# Altium integrated library Analog Devices Data Converters Digital-to-Analog Converters.IntLib: 2231 symbols (part 112 of 181)
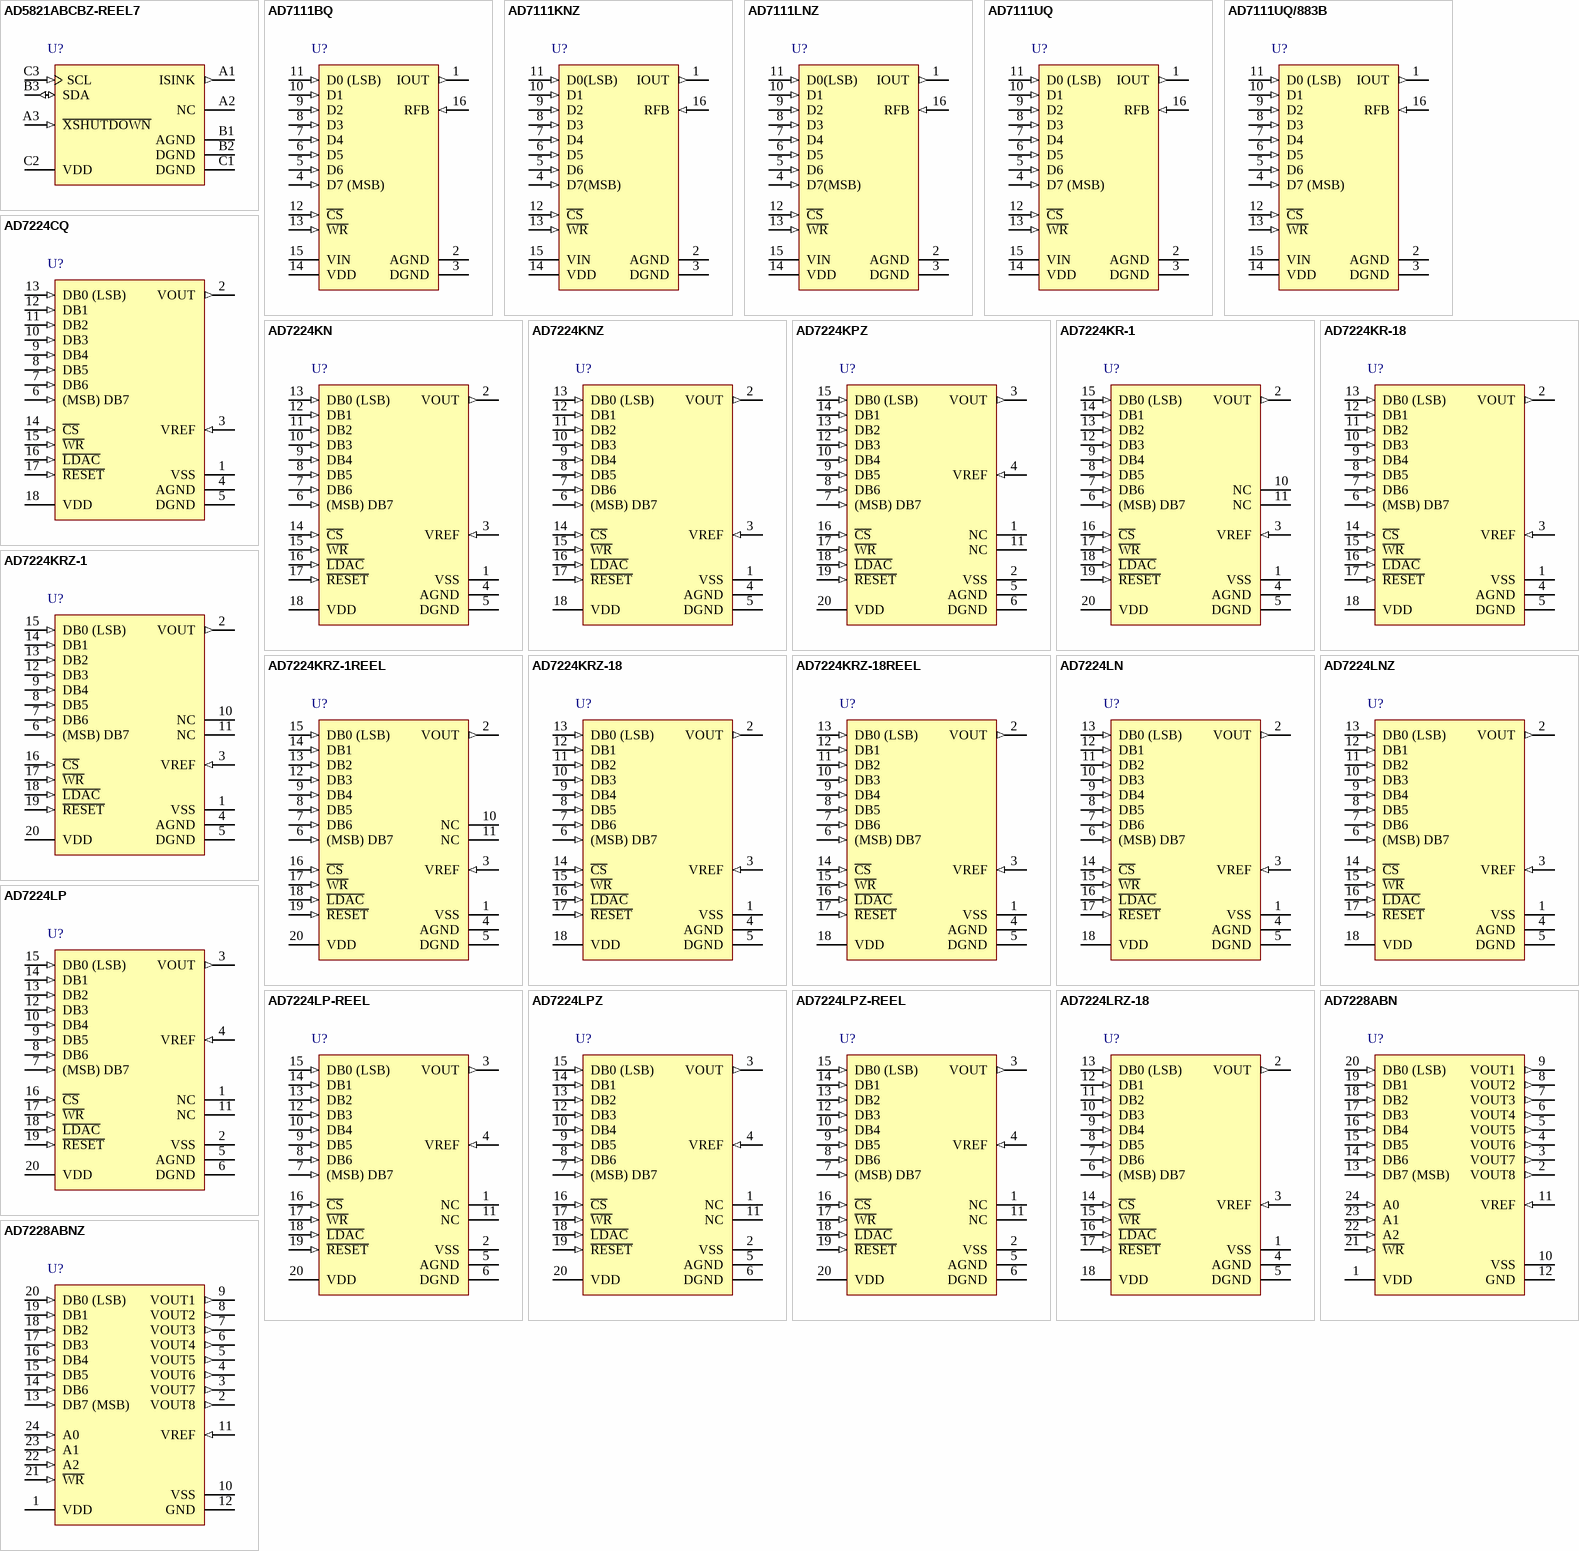
[diagram p225: symbols AD5821ABCBZ-REEL7 to AD7228ABNZ]

## AD7224KR-18
designator U?
Single 8-Bit LC2MOS Digital-to-Analog Converter with Output Amplifier, 0 to +70 degC, RW-18, Tube; Generic Part Number: AD7224; Manufacturer: Analog Devices; PartNumber: AD7224KR-18; # DAC Outputs: 1; Max V+: 16.5V; Op Pwr Diss: 75mW; Resolution (Bits): 8; Settling Time: 7µs; Single Supply: Yes; DatasheetVersion: Rev.B; PackageVersion: 060706-A; PackageReference: RW-18; PackageDescription: 18-Lead Standard Small Outline Package [SOIC_W] Wide Body; Supplier 1: Digi-Key; Supplier Part Number 1: AD7224KR-18-ND; Supplier 2: Newark; Supplier Part Number 2: 66F5834; Supplier 3: Mouser; Supplier Part Number 3: 584-AD7224KR-18; Packing: Tube; RoHS: N; Mounting Technology: Surface Mount; Code_JEDEC: MS-013-AB; ComponentLink1Description: Manufacturer URL; ComponentLink1URL: http://www.analog.com/en/index.html; ComponentLink2Description: Datasheet; ComponentLink2URL: http://www.analog.com/static/imported-files/data_sheets/AD7224.pdf; ComponentLink3Description: Package Specification; ComponentLink3URL: http://www.analog.com/static/imported-files/packages/33254132129439RW_18.pdf; ComponentLink4Description: Product URL; ComponentLink4URL: http://www.analog.com/en/digital-to-analog-converters/da-converters/ad7224/products/product.html
footprint RW-18_N (SOIC, 18-Leads, Body 11.6x7.5mm, Pitch 1.27mm, IPC Medium Density)
footprint RW-18_L (SOIC, 18-Leads, Body 11.6x7.5mm, Pitch 1.27mm, IPC High Density)
footprint RW-18_M (SOIC, 18-Leads, Body 11.6x7.5mm, Pitch 1.27mm, IPC Low Density)
pins: 1 VSS (power), 2 VOUT (out), 3 VREF (in), 4 AGND (power), 5 DGND (power), 6 (MSB) DB7 (in), 7 DB6 (in), 8 DB5 (in), 9 DB4 (in), 10 DB3 (in), 11 DB2 (in), 12 DB1 (in), 13 DB0 (LSB) (in), 14 ~{CS} (in), 15 ~{WR} (in), 16 ~{LDAC} (in), 17 ~{RESET} (in), 18 VDD (power)

## AD7224KRZ-1
designator U?
Single 8-Bit LC2MOS Digital-to-Analog Converter with Output Amplifier, 0 to +70 degC, RW-20, Pb-Free, Tube; Generic Part Number: AD7224; Manufacturer: Analog Devices; PartNumber: AD7224KRZ-1; # DAC Outputs: 1; Max V+: 16.5V; Op Pwr Diss: 75mW; Resolution (Bits): 8; Settling Time: 7µs; Single Supply: Yes; DatasheetVersion: Rev.B; PackageVersion: 060706-A; PackageReference: RW-20; PackageDescription: 20-Lead Standard Small Outline Package [SOIC_W] Wide Body; Supplier 1: Digi-Key; Supplier Part Number 1: AD7224KRZ-1-ND; Supplier 2: Newark; Supplier Part Number 2: 87H9974; Supplier 3: Mouser; Supplier Part Number 3: 584-AD7224KRZ-1; Packing: Tube; RoHS: Y; Mounting Technology: Surface Mount; Code_JEDEC: MS-013-AC; ComponentLink1Description: Manufacturer URL; ComponentLink1URL: http://www.analog.com/en/index.html; ComponentLink2Description: Datasheet; ComponentLink2URL: http://www.analog.com/static/imported-files/data_sheets/AD7224.pdf; ComponentLink3Description: Package Specification; ComponentLink3URL: http://www.analog.com/static/imported-files/packages/233848RW_20.pdf; ComponentLink4Description: Product URL; ComponentLink4URL: http://www.analog.com/en/digital-to-analog-converters/da-converters/ad7224/products/product.html
footprint RW-20_N (SOIC, 20-Leads, Body 12.8x7.5mm, Pitch 1.27mm, IPC Medium Density)
footprint RW-20_L (SOIC, 20-Leads, Body 12.8x7.5mm, Pitch 1.27mm, IPC High Density)
footprint RW-20_M (SOIC, 20-Leads, Body 12.8x7.5mm, Pitch 1.27mm, IPC Low Density)
pins: 1 VSS (power), 2 VOUT (out), 3 VREF (in), 4 AGND (power), 5 DGND (power), 6 (MSB) DB7 (in), 7 DB6 (in), 8 DB5 (in), 9 DB4 (in), 10 NC, 11 NC, 12 DB3 (in), 13 DB2 (in), 14 DB1 (in), 15 DB0 (LSB) (in), 16 ~{CS} (in), 17 ~{WR} (in), 18 ~{LDAC} (in), 19 ~{RESET} (in), 20 VDD (power)

## AD7224KRZ-1REEL
designator U?
Single 8-Bit LC2MOS Digital-to-Analog Converter with Output Amplifier, 0 to +70 degC, RW-20, Pb-Free, Reel; Generic Part Number: AD7224; Manufacturer: Analog Devices; PartNumber: AD7224KRZ-1REEL; # DAC Outputs: 1; Max V+: 16.5V; Op Pwr Diss: 75mW; Resolution (Bits): 8; Settling Time: 7µs; Single Supply: Yes; DatasheetVersion: Rev.B; PackageVersion: 060706-A; PackageReference: RW-20; PackageDescription: 20-Lead Standard Small Outline Package [SOIC_W] Wide Body; Supplier 1: Digi-Key; Supplier Part Number 1: AD7224KRZ-1REELTR-ND; Supplier 2: Digi-Key; Supplier Part Number 2: AD7224KRZ-1REELCT-ND; Supplier 3: Digi-Key; Supplier Part Number 3: AD7224KRZ-1REELDKR-ND; Supplier 4: Newark; Supplier Part Number 4: 02P7474; Supplier 5: Mouser; Supplier Part Number 5: 584-AD7224KRZ-1R; Packing: Reel; RoHS: Y; Mounting Technology: Surface Mount; Code_JEDEC: MS-013-AC; ComponentLink1Description: Manufacturer URL; ComponentLink1URL: http://www.analog.com/en/index.html; ComponentLink2Description: Datasheet; ComponentLink2URL: http://www.analog.com/static/imported-files/data_sheets/AD7224.pdf; ComponentLink3Description: Package Specification; ComponentLink3URL: http://www.analog.com/static/imported-files/packages/233848RW_20.pdf; ComponentLink4Description: Product URL; ComponentLink4URL: http://www.analog.com/en/digital-to-analog-converters/da-converters/ad7224/products/product.html
footprint RW-20_N (SOIC, 20-Leads, Body 12.8x7.5mm, Pitch 1.27mm, IPC Medium Density)
footprint RW-20_L (SOIC, 20-Leads, Body 12.8x7.5mm, Pitch 1.27mm, IPC High Density)
footprint RW-20_M (SOIC, 20-Leads, Body 12.8x7.5mm, Pitch 1.27mm, IPC Low Density)
pins: 1 VSS (power), 2 VOUT (out), 3 VREF (in), 4 AGND (power), 5 DGND (power), 6 (MSB) DB7 (in), 7 DB6 (in), 8 DB5 (in), 9 DB4 (in), 10 NC, 11 NC, 12 DB3 (in), 13 DB2 (in), 14 DB1 (in), 15 DB0 (LSB) (in), 16 ~{CS} (in), 17 ~{WR} (in), 18 ~{LDAC} (in), 19 ~{RESET} (in), 20 VDD (power)

## AD7224KRZ-18
designator U?
Single 8-Bit LC2MOS Digital-to-Analog Converter with Output Amplifier, 0 to +70 degC, RW-18, Pb-Free, Tube; Generic Part Number: AD7224; Manufacturer: Analog Devices; PartNumber: AD7224KRZ-18; # DAC Outputs: 1; Max V+: 16.5V; Op Pwr Diss: 75mW; Resolution (Bits): 8; Settling Time: 7µs; Single Supply: Yes; DatasheetVersion: Rev.B; PackageVersion: 060706-A; PackageReference: RW-18; PackageDescription: 18-Lead Standard Small Outline Package [SOIC_W] Wide Body; Supplier 1: Digi-Key; Supplier Part Number 1: AD7224KRZ-18-ND; Supplier 2: Mouser; Supplier Part Number 2: 584-AD7224KRZ-18; Packing: Tube; RoHS: Y; Mounting Technology: Surface Mount; Code_JEDEC: MS-013-AB; ComponentLink1Description: Manufacturer URL; ComponentLink1URL: http://www.analog.com/en/index.html; ComponentLink2Description: Datasheet; ComponentLink2URL: http://www.analog.com/static/imported-files/data_sheets/AD7224.pdf; ComponentLink3Description: Package Specification; ComponentLink3URL: http://www.analog.com/static/imported-files/packages/33254132129439RW_18.pdf; ComponentLink4Description: Product URL; ComponentLink4URL: http://www.analog.com/en/digital-to-analog-converters/da-converters/ad7224/products/product.html
footprint RW-18_N (SOIC, 18-Leads, Body 11.6x7.5mm, Pitch 1.27mm, IPC Medium Density)
footprint RW-18_L (SOIC, 18-Leads, Body 11.6x7.5mm, Pitch 1.27mm, IPC High Density)
footprint RW-18_M (SOIC, 18-Leads, Body 11.6x7.5mm, Pitch 1.27mm, IPC Low Density)
pins: 1 VSS (power), 2 VOUT (out), 3 VREF (in), 4 AGND (power), 5 DGND (power), 6 (MSB) DB7 (in), 7 DB6 (in), 8 DB5 (in), 9 DB4 (in), 10 DB3 (in), 11 DB2 (in), 12 DB1 (in), 13 DB0 (LSB) (in), 14 ~{CS} (in), 15 ~{WR} (in), 16 ~{LDAC} (in), 17 ~{RESET} (in), 18 VDD (power)

## AD7224KRZ-18REEL
designator U?
Single 8-Bit LC2MOS Digital-to-Analog Converter with Output Amplifier, 0 to +70 degC, RW-18, Pb-Free, Reel; Generic Part Number: AD7224; Manufacturer: Analog Devices; PartNumber: AD7224KRZ-18REEL; # DAC Outputs: 1; Max V+: 16.5V; Op Pwr Diss: 75mW; Resolution (Bits): 8; Settling Time: 7µs; Single Supply: Yes; DatasheetVersion: Rev.B; PackageVersion: 060706-A; PackageReference: RW-18; PackageDescription: 18-Lead Standard Small Outline Package [SOIC_W] Wide Body; Supplier 1: Digi-Key; Supplier Part Number 1: AD7224KRZ-18REEL-ND; Supplier 2: Mouser; Supplier Part Number 2: 584-AD7224KRZ-18R; Packing: Reel; RoHS: Y; Mounting Technology: Surface Mount; Code_JEDEC: MS-013-AB; ComponentLink1Description: Manufacturer URL; ComponentLink1URL: http://www.analog.com/en/index.html; ComponentLink2Description: Datasheet; ComponentLink2URL: http://www.analog.com/static/imported-files/data_sheets/AD7224.pdf; ComponentLink3Description: Package Specification; ComponentLink3URL: http://www.analog.com/static/imported-files/packages/33254132129439RW_18.pdf; ComponentLink4Description: Product URL; ComponentLink4URL: http://www.analog.com/en/digital-to-analog-converters/da-converters/ad7224/products/product.html
footprint RW-18_N (SOIC, 18-Leads, Body 11.6x7.5mm, Pitch 1.27mm, IPC Medium Density)
footprint RW-18_L (SOIC, 18-Leads, Body 11.6x7.5mm, Pitch 1.27mm, IPC High Density)
footprint RW-18_M (SOIC, 18-Leads, Body 11.6x7.5mm, Pitch 1.27mm, IPC Low Density)
pins: 1 VSS (power), 2 VOUT (out), 3 VREF (in), 4 AGND (power), 5 DGND (power), 6 (MSB) DB7 (in), 7 DB6 (in), 8 DB5 (in), 9 DB4 (in), 10 DB3 (in), 11 DB2 (in), 12 DB1 (in), 13 DB0 (LSB) (in), 14 ~{CS} (in), 15 ~{WR} (in), 16 ~{LDAC} (in), 17 ~{RESET} (in), 18 VDD (power)

## AD7224LN
designator U?
Single 8-Bit LC2MOS Digital-to-Analog Converter with Output Amplifier, 0 to +70 degC, N-18, Tube; Generic Part Number: AD7224; Manufacturer: Analog Devices; PartNumber: AD7224LN; # DAC Outputs: 1; Max V+: 16.5V; Op Pwr Diss: 75mW; Resolution (Bits): 8; Settling Time: 7µs; Single Supply: Yes; DatasheetVersion: Rev.B; PackageVersion: 070706-A; PackageReference: N-18; PackageDescription: 18-Lead Plastic Dual In-Line Package [PDIP] Narrow Body; Supplier 1: Digi-Key; Supplier Part Number 1: AD7224LN-ND; Supplier 2: Mouser; Supplier Part Number 2: 584-AD7224LN; Packing: Tube; RoHS: N; Mounting Technology: Through Hole; Code_JEDEC: MS-001; ComponentLink1Description: Manufacturer URL; ComponentLink1URL: http://www.analog.com/en/index.html; ComponentLink2Description: Datasheet; ComponentLink2URL: http://www.analog.com/static/imported-files/data_sheets/AD7224.pdf; ComponentLink3Description: Package Specification; ComponentLink3URL: http://www.analog.com/static/imported-files/packages/44930452931834N_18.pdf; ComponentLink4Description: Product URL; ComponentLink4URL: http://www.analog.com/en/digital-to-analog-converters/da-converters/ad7224/products/product.html
footprint N-18 (DIP, 18-Leads, Row Spacing 7.62mm, Pitch 2.54mm, Body 22.9x6.6mm)
pins: 1 VSS (power), 2 VOUT (out), 3 VREF (in), 4 AGND (power), 5 DGND (power), 6 (MSB) DB7 (in), 7 DB6 (in), 8 DB5 (in), 9 DB4 (in), 10 DB3 (in), 11 DB2 (in), 12 DB1 (in), 13 DB0 (LSB) (in), 14 ~{CS} (in), 15 ~{WR} (in), 16 ~{LDAC} (in), 17 ~{RESET} (in), 18 VDD (power)

## AD7224LNZ
designator U?
Single 8-Bit LC2MOS Digital-to-Analog Converter with Output Amplifier, 0 to +70 degC, N-18, Pb-Free, Tube; Generic Part Number: AD7224; Manufacturer: Analog Devices; PartNumber: AD7224LNZ; # DAC Outputs: 1; Max V+: 16.5V; Op Pwr Diss: 75mW; Resolution (Bits): 8; Settling Time: 7µs; Single Supply: Yes; DatasheetVersion: Rev.B; PackageVersion: 070706-A; PackageReference: N-18; PackageDescription: 18-Lead Plastic Dual In-Line Package [PDIP] Narrow Body; Supplier 1: Digi-Key; Supplier Part Number 1: AD7224LNZ-ND; Supplier 2: Newark; Supplier Part Number 2: 59K4567; Supplier 3: Mouser; Supplier Part Number 3: 584-AD7224LNZ; Packing: Tube; RoHS: Y; Mounting Technology: Through Hole; Code_JEDEC: MS-001; ComponentLink1Description: Manufacturer URL; ComponentLink1URL: http://www.analog.com/en/index.html; ComponentLink2Description: Datasheet; ComponentLink2URL: http://www.analog.com/static/imported-files/data_sheets/AD7224.pdf; ComponentLink3Description: Package Specification; ComponentLink3URL: http://www.analog.com/static/imported-files/packages/44930452931834N_18.pdf; ComponentLink4Description: Product URL; ComponentLink4URL: http://www.analog.com/en/digital-to-analog-converters/da-converters/ad7224/products/product.html
footprint N-18 (DIP, 18-Leads, Row Spacing 7.62mm, Pitch 2.54mm, Body 22.9x6.6mm)
pins: 1 VSS (power), 2 VOUT (out), 3 VREF (in), 4 AGND (power), 5 DGND (power), 6 (MSB) DB7 (in), 7 DB6 (in), 8 DB5 (in), 9 DB4 (in), 10 DB3 (in), 11 DB2 (in), 12 DB1 (in), 13 DB0 (LSB) (in), 14 ~{CS} (in), 15 ~{WR} (in), 16 ~{LDAC} (in), 17 ~{RESET} (in), 18 VDD (power)

## AD7224LP
designator U?
Single 8-Bit LC2MOS Digital-to-Analog Converter with Output Amplifier, 0 to +70 degC, P-20A, Tube; Generic Part Number: AD7224; Manufacturer: Analog Devices; PartNumber: AD7224LP; # DAC Outputs: 1; Max V+: 16.5V; Op Pwr Diss: 75mW; Resolution (Bits): 8; Settling Time: 7µs; Single Supply: Yes; DatasheetVersion: Rev.B; PackageVersion: Nov-2002; PackageReference: P-20A; PackageDescription: 20-Lead Plastic Leaded Chip Carrier [PLCC]; Supplier 1: Digi-Key; Supplier Part Number 1: AD7224LP-ND; Supplier 2: Mouser; Supplier Part Number 2: 584-AD7224LP; Packing: Tube; RoHS: N; Mounting Technology: Surface Mount; Code_JEDEC: MO-047-AA; ComponentLink1Description: Manufacturer URL; ComponentLink1URL: http://www.analog.com/en/index.html; ComponentLink2Description: Datasheet; ComponentLink2URL: http://www.analog.com/static/imported-files/data_sheets/AD7224.pdf; ComponentLink3Description: Package Specification; ComponentLink3URL: http://www.analog.com/static/imported-files/packages/3121431516544404277643669223804694P20A.pdf; ComponentLink4Description: Product URL; ComponentLink4URL: http://www.analog.com/en/digital-to-analog-converters/da-converters/ad7224/products/product.html
footprint P-20A_N (Leaded Chip Carrier, 20-Leads, Body 9x9mm, Pitch 1.27mm, IPC Medium Density)
footprint P-20A_L (Leaded Chip Carrier, 20-Leads, Body 9x9mm, Pitch 1.27mm, IPC High Density)
footprint P-20A_M (Leaded Chip Carrier, 20-Leads, Body 9x9mm, Pitch 1.27mm, IPC Low Density)
pins: 1 NC, 2 VSS (power), 3 VOUT (out), 4 VREF (in), 5 AGND (power), 6 DGND (power), 7 (MSB) DB7 (in), 8 DB6 (in), 9 DB5 (in), 10 DB4 (in), 11 NC, 12 DB3 (in), 13 DB2 (in), 14 DB1 (in), 15 DB0 (LSB) (in), 16 ~{CS} (in), 17 ~{WR} (in), 18 ~{LDAC} (in), 19 ~{RESET} (in), 20 VDD (power)

## AD7224LP-REEL
designator U?
Single 8-Bit LC2MOS Digital-to-Analog Converter with Output Amplifier, 0 to +70 degC, P-20A, Reel; Generic Part Number: AD7224; Manufacturer: Analog Devices; PartNumber: AD7224LP-REEL; # DAC Outputs: 1; Max V+: 16.5V; Op Pwr Diss: 75mW; Resolution (Bits): 8; Settling Time: 7µs; Single Supply: Yes; DatasheetVersion: Rev.B; PackageVersion: Nov-2002; PackageReference: P-20A; PackageDescription: 20-Lead Plastic Leaded Chip Carrier [PLCC]; Supplier 1: Digi-Key; Supplier Part Number 1: AD7224LP-REEL-ND; Supplier 2: Mouser; Supplier Part Number 2: 584-AD7224LP-R; Packing: Reel; RoHS: N; Mounting Technology: Surface Mount; Code_JEDEC: MO-047-AA; ComponentLink1Description: Manufacturer URL; ComponentLink1URL: http://www.analog.com/en/index.html; ComponentLink2Description: Datasheet; ComponentLink2URL: http://www.analog.com/static/imported-files/data_sheets/AD7224.pdf; ComponentLink3Description: Package Specification; ComponentLink3URL: http://www.analog.com/static/imported-files/packages/3121431516544404277643669223804694P20A.pdf; ComponentLink4Description: Product URL; ComponentLink4URL: http://www.analog.com/en/digital-to-analog-converters/da-converters/ad7224/products/product.html
footprint P-20A_N (Leaded Chip Carrier, 20-Leads, Body 9x9mm, Pitch 1.27mm, IPC Medium Density)
footprint P-20A_L (Leaded Chip Carrier, 20-Leads, Body 9x9mm, Pitch 1.27mm, IPC High Density)
footprint P-20A_M (Leaded Chip Carrier, 20-Leads, Body 9x9mm, Pitch 1.27mm, IPC Low Density)
pins: 1 NC, 2 VSS (power), 3 VOUT (out), 4 VREF (in), 5 AGND (power), 6 DGND (power), 7 (MSB) DB7 (in), 8 DB6 (in), 9 DB5 (in), 10 DB4 (in), 11 NC, 12 DB3 (in), 13 DB2 (in), 14 DB1 (in), 15 DB0 (LSB) (in), 16 ~{CS} (in), 17 ~{WR} (in), 18 ~{LDAC} (in), 19 ~{RESET} (in), 20 VDD (power)

## AD7224LPZ
designator U?
Single 8-Bit LC2MOS Digital-to-Analog Converter with Output Amplifier, 0 to +70 degC, P-20A, Pb-Free, Tube; Generic Part Number: AD7224; Manufacturer: Analog Devices; PartNumber: AD7224LPZ; # DAC Outputs: 1; Max V+: 16.5V; Op Pwr Diss: 75mW; Resolution (Bits): 8; Settling Time: 7µs; Single Supply: Yes; DatasheetVersion: Rev.B; PackageVersion: Nov-2002; PackageReference: P-20A; PackageDescription: 20-Lead Plastic Leaded Chip Carrier [PLCC]; Supplier 1: Digi-Key; Supplier Part Number 1: AD7224LPZ-ND; Supplier 2: Mouser; Supplier Part Number 2: 584-AD7224LPZ; Packing: Tube; RoHS: Y; Mounting Technology: Surface Mount; Code_JEDEC: MO-047-AA; ComponentLink1Description: Manufacturer URL; ComponentLink1URL: http://www.analog.com/en/index.html; ComponentLink2Description: Datasheet; ComponentLink2URL: http://www.analog.com/static/imported-files/data_sheets/AD7224.pdf; ComponentLink3Description: Package Specification; ComponentLink3URL: http://www.analog.com/static/imported-files/packages/3121431516544404277643669223804694P20A.pdf; ComponentLink4Description: Product URL; ComponentLink4URL: http://www.analog.com/en/digital-to-analog-converters/da-converters/ad7224/products/product.html
footprint P-20A_N (Leaded Chip Carrier, 20-Leads, Body 9x9mm, Pitch 1.27mm, IPC Medium Density)
footprint P-20A_L (Leaded Chip Carrier, 20-Leads, Body 9x9mm, Pitch 1.27mm, IPC High Density)
footprint P-20A_M (Leaded Chip Carrier, 20-Leads, Body 9x9mm, Pitch 1.27mm, IPC Low Density)
pins: 1 NC, 2 VSS (power), 3 VOUT (out), 4 VREF (in), 5 AGND (power), 6 DGND (power), 7 (MSB) DB7 (in), 8 DB6 (in), 9 DB5 (in), 10 DB4 (in), 11 NC, 12 DB3 (in), 13 DB2 (in), 14 DB1 (in), 15 DB0 (LSB) (in), 16 ~{CS} (in), 17 ~{WR} (in), 18 ~{LDAC} (in), 19 ~{RESET} (in), 20 VDD (power)

## AD7224LPZ-REEL
designator U?
Single 8-Bit LC2MOS Digital-to-Analog Converter with Output Amplifier, 0 to +70 degC, P-20A, Pb-Free, Reel; Generic Part Number: AD7224; Manufacturer: Analog Devices; PartNumber: AD7224LPZ-REEL; # DAC Outputs: 1; Max V+: 16.5V; Op Pwr Diss: 75mW; Resolution (Bits): 8; Settling Time: 7µs; Single Supply: Yes; DatasheetVersion: Rev.B; PackageVersion: Nov-2002; PackageReference: P-20A; PackageDescription: 20-Lead Plastic Leaded Chip Carrier [PLCC]; Supplier 1: Digi-Key; Supplier Part Number 1: AD7224LPZ-REEL-ND; Supplier 2: Mouser; Supplier Part Number 2: 584-AD7224LPZ-R; Packing: Reel; RoHS: Y; Mounting Technology: Surface Mount; Code_JEDEC: MO-047-AA; ComponentLink1Description: Manufacturer URL; ComponentLink1URL: http://www.analog.com/en/index.html; ComponentLink2Description: Datasheet; ComponentLink2URL: http://www.analog.com/static/imported-files/data_sheets/AD7224.pdf; ComponentLink3Description: Package Specification; ComponentLink3URL: http://www.analog.com/static/imported-files/packages/3121431516544404277643669223804694P20A.pdf; ComponentLink4Description: Product URL; ComponentLink4URL: http://www.analog.com/en/digital-to-analog-converters/da-converters/ad7224/products/product.html
footprint P-20A_N (Leaded Chip Carrier, 20-Leads, Body 9x9mm, Pitch 1.27mm, IPC Medium Density)
footprint P-20A_L (Leaded Chip Carrier, 20-Leads, Body 9x9mm, Pitch 1.27mm, IPC High Density)
footprint P-20A_M (Leaded Chip Carrier, 20-Leads, Body 9x9mm, Pitch 1.27mm, IPC Low Density)
pins: 1 NC, 2 VSS (power), 3 VOUT (out), 4 VREF (in), 5 AGND (power), 6 DGND (power), 7 (MSB) DB7 (in), 8 DB6 (in), 9 DB5 (in), 10 DB4 (in), 11 NC, 12 DB3 (in), 13 DB2 (in), 14 DB1 (in), 15 DB0 (LSB) (in), 16 ~{CS} (in), 17 ~{WR} (in), 18 ~{LDAC} (in), 19 ~{RESET} (in), 20 VDD (power)

## AD7224LRZ-18
designator U?
Single 8-Bit LC2MOS Digital-to-Analog Converter with Output Amplifier, 0 to +70 degC, RW-18, Pb-Free, Tube; Generic Part Number: AD7224; Manufacturer: Analog Devices; PartNumber: AD7224LRZ-18; # DAC Outputs: 1; Max V+: 16.5V; Op Pwr Diss: 75mW; Resolution (Bits): 8; Settling Time: 7µs; Single Supply: Yes; DatasheetVersion: Rev.B; PackageVersion: 060706-A; PackageReference: RW-18; PackageDescription: 18-Lead Standard Small Outline Package [SOIC_W] Wide Body; Supplier 1: Digi-Key; Supplier Part Number 1: AD7224LRZ-18-ND; Supplier 2: Mouser; Supplier Part Number 2: 584-AD7224LRZ-18; Packing: Tube; RoHS: Y; Mounting Technology: Surface Mount; Code_JEDEC: MS-013-AB; ComponentLink1Description: Manufacturer URL; ComponentLink1URL: http://www.analog.com/en/index.html; ComponentLink2Description: Datasheet; ComponentLink2URL: http://www.analog.com/static/imported-files/data_sheets/AD7224.pdf; ComponentLink3Description: Package Specification; ComponentLink3URL: http://www.analog.com/static/imported-files/packages/33254132129439RW_18.pdf; ComponentLink4Description: Product URL; ComponentLink4URL: http://www.analog.com/en/digital-to-analog-converters/da-converters/ad7224/products/product.html
footprint RW-18_N (SOIC, 18-Leads, Body 11.6x7.5mm, Pitch 1.27mm, IPC Medium Density)
footprint RW-18_L (SOIC, 18-Leads, Body 11.6x7.5mm, Pitch 1.27mm, IPC High Density)
footprint RW-18_M (SOIC, 18-Leads, Body 11.6x7.5mm, Pitch 1.27mm, IPC Low Density)
pins: 1 VSS (power), 2 VOUT (out), 3 VREF (in), 4 AGND (power), 5 DGND (power), 6 (MSB) DB7 (in), 7 DB6 (in), 8 DB5 (in), 9 DB4 (in), 10 DB3 (in), 11 DB2 (in), 12 DB1 (in), 13 DB0 (LSB) (in), 14 ~{CS} (in), 15 ~{WR} (in), 16 ~{LDAC} (in), 17 ~{RESET} (in), 18 VDD (power)

## AD7228ABN
designator U?
Octal 8-Bit LC2MOS Digital-to-Analog Converter, -40 to +85 degC, N-24-1, Tube; Generic Part Number: AD7228; Manufacturer: Analog Devices; PartNumber: AD7228ABN; # DAC Outputs: 8; Max V+: 16.5V; Op Pwr Diss: 310mW; Settling Time: 5µs; Single Supply: Yes; DatasheetVersion: Rev.A; PackageVersion: 071006-A; PackageReference: N-24-1; PackageDescription: 24-Lead Plastic Dual In-Line Package [PDIP] Narrow Body; Supplier 1: Digi-Key; Supplier Part Number 1: AD7228ABN-ND; Supplier 2: Mouser; Supplier Part Number 2: 584-AD7228ABN; Packing: Tube; Resolution (Bits): 8; RoHS: N; Mounting Technology: Through Hole; Code_JEDEC: MS-001; ComponentLink1Description: Manufacturer URL; ComponentLink1URL: http://www.analog.com/en/index.html; ComponentLink2Description: Datasheet; ComponentLink2URL: http://www.analog.com/static/imported-files/data_sheets/AD7228.pdf; ComponentLink3Description: Package Specification; ComponentLink3URL: http://www.analog.com/static/imported-files/packages/50726455539629N_24_1.pdf; ComponentLink4Description: Product URL; ComponentLink4URL: http://www.analog.com/en/digital-to-analog-converters/da-converters/ad7228/products/product.html
footprint N-24-1 (DIP, 24-Leads, Row Spacing 7.62mm, Pitch 2.54mm, Body 31.9x6.6mm)
pins: 1 VDD (power), 2 VOUT8 (out), 3 VOUT7 (out), 4 VOUT6 (out), 5 VOUT5 (out), 6 VOUT4 (out), 7 VOUT3 (out), 8 VOUT2 (out), 9 VOUT1 (out), 10 VSS (power), 11 VREF (in), 12 GND (power), 13 DB7 (MSB) (in), 14 DB6 (in), 15 DB5 (in), 16 DB4 (in), 17 DB3 (in), 18 DB2 (in), 19 DB1 (in), 20 DB0 (LSB) (in), 21 ~{WR} (in), 22 A2 (in), 23 A1 (in), 24 A0 (in)

## AD7228ABNZ
designator U?
Octal 8-Bit LC2MOS Digital-to-Analog Converter, -40 to +85 degC, N-24-1, Pb-Free, Tube; Generic Part Number: AD7228; Manufacturer: Analog Devices; PartNumber: AD7228ABNZ; # DAC Outputs: 8; Max V+: 16.5V; Op Pwr Diss: 310mW; Settling Time: 5µs; Single Supply: Yes; DatasheetVersion: Rev.A; PackageVersion: 071006-A; PackageReference: N-24-1; PackageDescription: 24-Lead Plastic Dual In-Line Package [PDIP] Narrow Body; Supplier 1: Digi-Key; Supplier Part Number 1: AD7228ABNZ-ND; Supplier 2: Farnell; Supplier Part Number 2: 1438386; Supplier 3: Newark; Supplier Part Number 3: 15P0774; Supplier 4: Mouser; Supplier Part Number 4: 584-AD7228ABNZ; Packing: Tube; Resolution (Bits): 8; RoHS: Y; Mounting Technology: Through Hole; Code_JEDEC: MS-001; ComponentLink1Description: Manufacturer URL; ComponentLink1URL: http://www.analog.com/en/index.html; ComponentLink2Description: Datasheet; ComponentLink2URL: http://www.analog.com/static/imported-files/data_sheets/AD7228.pdf; ComponentLink3Description: Package Specification; ComponentLink3URL: http://www.analog.com/static/imported-files/packages/50726455539629N_24_1.pdf; ComponentLink4Description: Product URL; ComponentLink4URL: http://www.analog.com/en/digital-to-analog-converters/da-converters/ad7228/products/product.html
footprint N-24-1 (DIP, 24-Leads, Row Spacing 7.62mm, Pitch 2.54mm, Body 31.9x6.6mm)
pins: 1 VDD (power), 2 VOUT8 (out), 3 VOUT7 (out), 4 VOUT6 (out), 5 VOUT5 (out), 6 VOUT4 (out), 7 VOUT3 (out), 8 VOUT2 (out), 9 VOUT1 (out), 10 VSS (power), 11 VREF (in), 12 GND (power), 13 DB7 (MSB) (in), 14 DB6 (in), 15 DB5 (in), 16 DB4 (in), 17 DB3 (in), 18 DB2 (in), 19 DB1 (in), 20 DB0 (LSB) (in), 21 ~{WR} (in), 22 A2 (in), 23 A1 (in), 24 A0 (in)

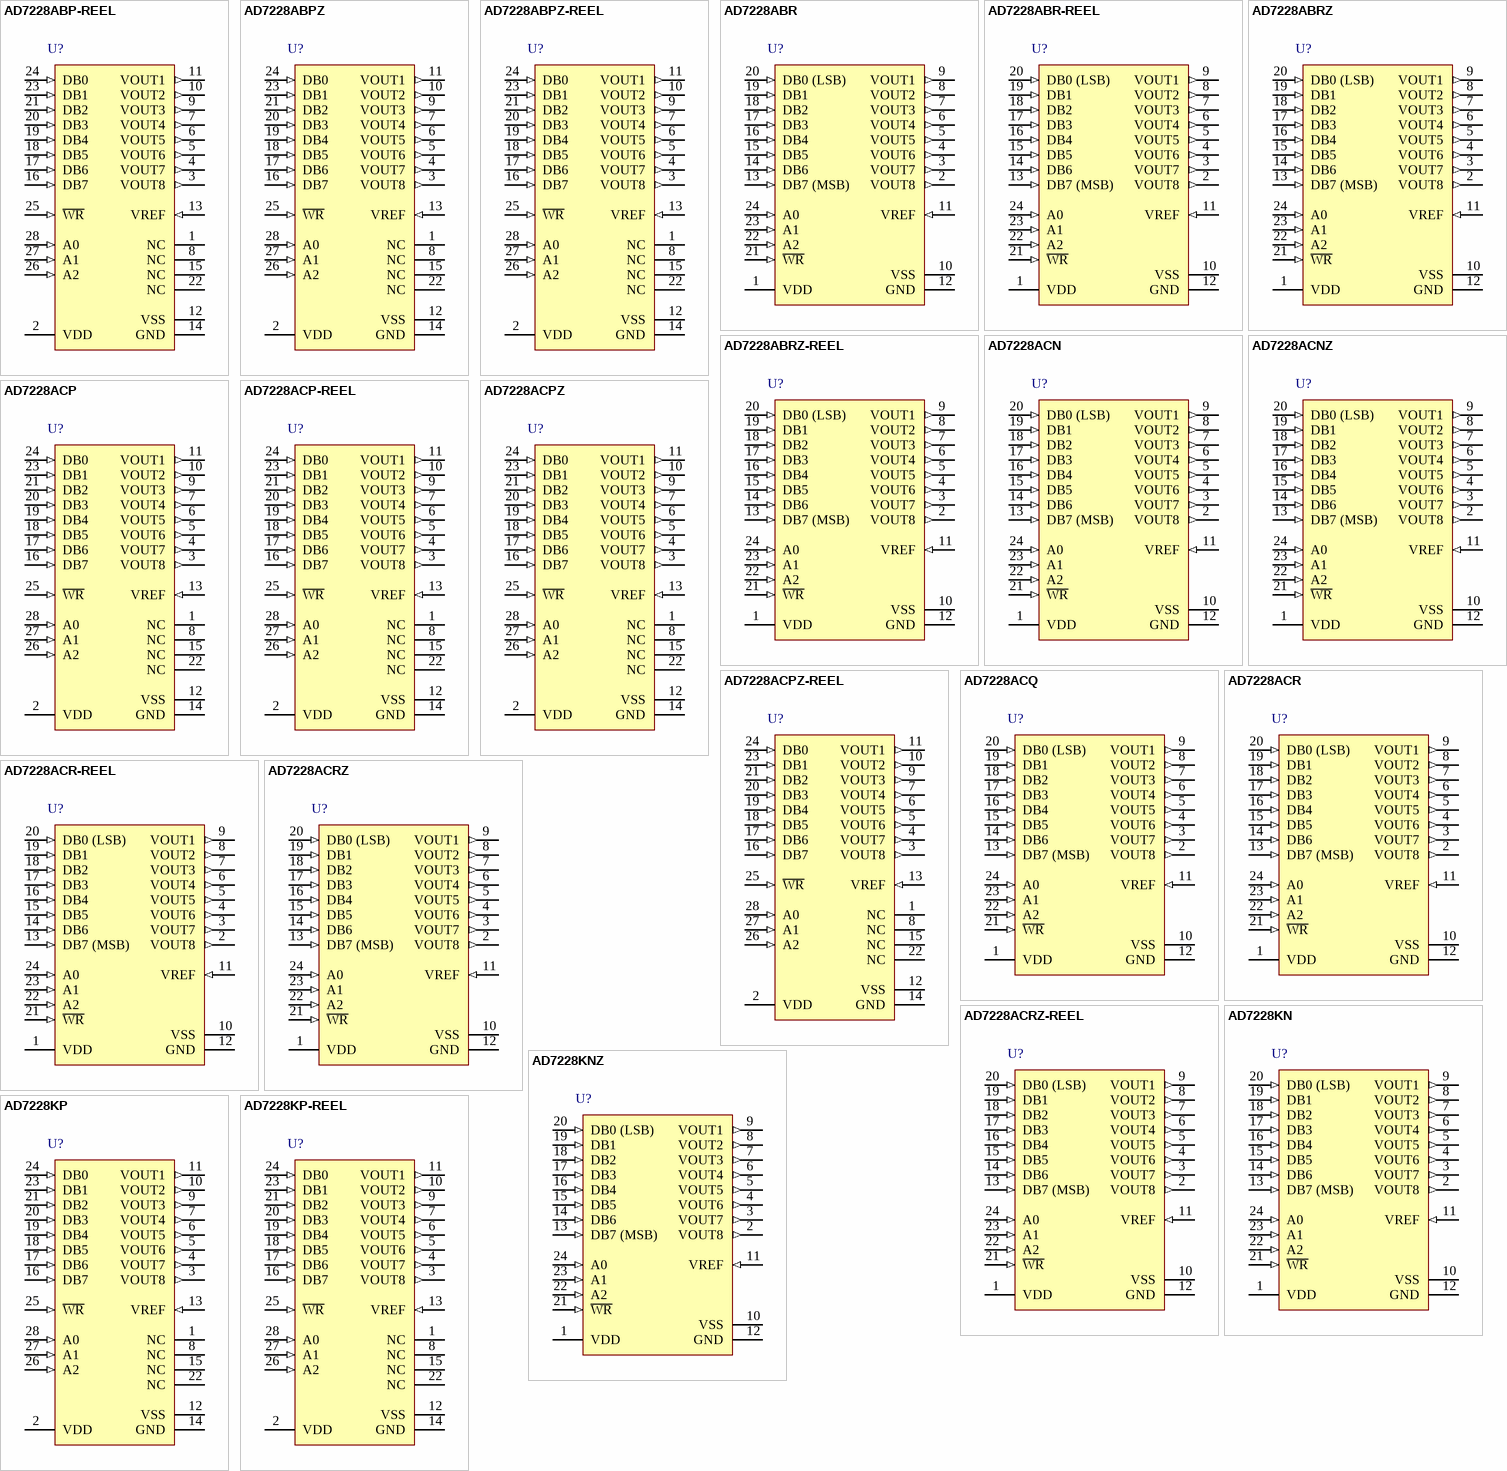
[diagram p59: symbols AD7228ABP-REEL to AD7228KP-REEL]

## AD7228ABP-REEL
designator U?
Octal 8-Bit LC2MOS Digital-to-Analog Converter, -40 to +85 degC, P-28, Reel; Generic Part Number: AD7228; Manufacturer: Analog Devices; PartNumber: AD7228ABP-REEL; # DAC Outputs: 8; Max V+: 16.5V; Op Pwr Diss: 310mW; Settling Time: 5µs; Single Supply: Yes; DatasheetVersion: Rev.A; PackageVersion: 042508-A; PackageReference: P-28; PackageDescription: 28-Lead Plastic Leaded Chip Carrier [PLCC]; Supplier 1: Mouser; Supplier Part Number 1: N/A; Packing: Reel; Resolution (Bits): 8; RoHS: N; Mounting Technology: Surface Mount; Code_JEDEC: MO-047-AB; ComponentLink1Description: Manufacturer URL; ComponentLink1URL: http://www.analog.com/en/index.html; ComponentLink2Description: Datasheet; ComponentLink2URL: http://www.analog.com/static/imported-files/data_sheets/AD7228.pdf; ComponentLink3Description: Package Specification; ComponentLink3URL: http://www.analog.com/static/imported-files/packages/PKG_PDF/PLCC(P)/P_28.pdf; ComponentLink4Description: Product URL; ComponentLink4URL: http://www.analog.com/en/digital-to-analog-converters/da-converters/ad7228/products/product.html
footprint P-28_N (Leaded Chip Carrier, 28-Leads, Body 11.5x11.5mm, Pitch 1.27mm, IPC Medium Density)
footprint P-28_L (Leaded Chip Carrier, 28-Leads, Body 11.5x11.5mm, Pitch 1.27mm, IPC High Density)
footprint P-28_M (Leaded Chip Carrier, 28-Leads, Body 11.5x11.5mm, Pitch 1.27mm, IPC Low Density)
pins: 1 NC, 2 VDD (power), 3 VOUT8 (out), 4 VOUT7 (out), 5 VOUT6 (out), 6 VOUT5 (out), 7 VOUT4 (out), 8 NC, 9 VOUT3 (out), 10 VOUT2 (out), 11 VOUT1 (out), 12 VSS (power), 13 VREF (in), 14 GND (power), 15 NC, 16 DB7 (in), 17 DB6 (in), 18 DB5 (in), 19 DB4 (in), 20 DB3 (in), 21 DB2 (in), 22 NC, 23 DB1 (in), 24 DB0 (in), 25 ~{WR} (in), 26 A2 (in), 27 A1 (in), 28 A0 (in)

## AD7228ABPZ
designator U?
Octal 8-Bit LC2MOS Digital-to-Analog Converter, -40 to +85 degC, P-28, Pb-Free, Tube; Generic Part Number: AD7228; Manufacturer: Analog Devices; PartNumber: AD7228ABPZ; # DAC Outputs: 8; Max V+: 16.5V; Op Pwr Diss: 310mW; Settling Time: 5µs; Single Supply: Yes; DatasheetVersion: Rev.A; PackageVersion: 042508-A; PackageReference: P-28; PackageDescription: 28-Lead Plastic Leaded Chip Carrier [PLCC]; Supplier 1: Digi-Key; Supplier Part Number 1: AD7228ABPZ-ND; Supplier 2: Newark; Supplier Part Number 2: 12M8731; Supplier 3: Mouser; Supplier Part Number 3: 584-AD7228ABPZ; Packing: Tube; Resolution (Bits): 8; RoHS: Y; Mounting Technology: Surface Mount; Code_JEDEC: MO-047-AB; ComponentLink1Description: Manufacturer URL; ComponentLink1URL: http://www.analog.com/en/index.html; ComponentLink2Description: Datasheet; ComponentLink2URL: http://www.analog.com/static/imported-files/data_sheets/AD7228.pdf; ComponentLink3Description: Package Specification; ComponentLink3URL: http://www.analog.com/static/imported-files/packages/PKG_PDF/PLCC(P)/P_28.pdf; ComponentLink4Description: Product URL; ComponentLink4URL: http://www.analog.com/en/digital-to-analog-converters/da-converters/ad7228/products/product.html
footprint P-28_N (Leaded Chip Carrier, 28-Leads, Body 11.5x11.5mm, Pitch 1.27mm, IPC Medium Density)
footprint P-28_L (Leaded Chip Carrier, 28-Leads, Body 11.5x11.5mm, Pitch 1.27mm, IPC High Density)
footprint P-28_M (Leaded Chip Carrier, 28-Leads, Body 11.5x11.5mm, Pitch 1.27mm, IPC Low Density)
pins: 1 NC, 2 VDD (power), 3 VOUT8 (out), 4 VOUT7 (out), 5 VOUT6 (out), 6 VOUT5 (out), 7 VOUT4 (out), 8 NC, 9 VOUT3 (out), 10 VOUT2 (out), 11 VOUT1 (out), 12 VSS (power), 13 VREF (in), 14 GND (power), 15 NC, 16 DB7 (in), 17 DB6 (in), 18 DB5 (in), 19 DB4 (in), 20 DB3 (in), 21 DB2 (in), 22 NC, 23 DB1 (in), 24 DB0 (in), 25 ~{WR} (in), 26 A2 (in), 27 A1 (in), 28 A0 (in)

## AD7228ABPZ-REEL
designator U?
Octal 8-Bit LC2MOS Digital-to-Analog Converter, -40 to +85 degC, P-28, Pb-Free, Reel; Generic Part Number: AD7228; Manufacturer: Analog Devices; PartNumber: AD7228ABPZ-REEL; # DAC Outputs: 8; Max V+: 16.5V; Op Pwr Diss: 310mW; Settling Time: 5µs; Single Supply: Yes; DatasheetVersion: Rev.A; PackageVersion: 042508-A; PackageReference: P-28; PackageDescription: 28-Lead Plastic Leaded Chip Carrier [PLCC]; Supplier 1: Digi-Key; Supplier Part Number 1: AD7228ABPZ-REEL-ND; Supplier 2: Mouser; Supplier Part Number 2: 584-AD7228ABPZ-R; Packing: Reel; Resolution (Bits): 8; RoHS: Y; Mounting Technology: Surface Mount; Code_JEDEC: MO-047-AB; ComponentLink1Description: Manufacturer URL; ComponentLink1URL: http://www.analog.com/en/index.html; ComponentLink2Description: Datasheet; ComponentLink2URL: http://www.analog.com/static/imported-files/data_sheets/AD7228.pdf; ComponentLink3Description: Package Specification; ComponentLink3URL: http://www.analog.com/static/imported-files/packages/PKG_PDF/PLCC(P)/P_28.pdf; ComponentLink4Description: Product URL; ComponentLink4URL: http://www.analog.com/en/digital-to-analog-converters/da-converters/ad7228/products/product.html
footprint P-28_N (Leaded Chip Carrier, 28-Leads, Body 11.5x11.5mm, Pitch 1.27mm, IPC Medium Density)
footprint P-28_L (Leaded Chip Carrier, 28-Leads, Body 11.5x11.5mm, Pitch 1.27mm, IPC High Density)
footprint P-28_M (Leaded Chip Carrier, 28-Leads, Body 11.5x11.5mm, Pitch 1.27mm, IPC Low Density)
pins: 1 NC, 2 VDD (power), 3 VOUT8 (out), 4 VOUT7 (out), 5 VOUT6 (out), 6 VOUT5 (out), 7 VOUT4 (out), 8 NC, 9 VOUT3 (out), 10 VOUT2 (out), 11 VOUT1 (out), 12 VSS (power), 13 VREF (in), 14 GND (power), 15 NC, 16 DB7 (in), 17 DB6 (in), 18 DB5 (in), 19 DB4 (in), 20 DB3 (in), 21 DB2 (in), 22 NC, 23 DB1 (in), 24 DB0 (in), 25 ~{WR} (in), 26 A2 (in), 27 A1 (in), 28 A0 (in)

## AD7228ABR
designator U?
Octal 8-Bit LC2MOS Digital-to-Analog Converter, -40 to +85 degC, RW-24, Tube; Generic Part Number: AD7228; Manufacturer: Analog Devices; PartNumber: AD7228ABR; # DAC Outputs: 8; Max V+: 16.5V; Op Pwr Diss: 310mW; Settling Time: 5µs; Single Supply: Yes; DatasheetVersion: Rev.A; PackageVersion: 060706-A; PackageReference: RW-24; PackageDescription: 24-Lead Standard Small Outline Package [SOIC_W]; Supplier 1: Digi-Key; Supplier Part Number 1: AD7228ABR-ND; Supplier 2: Mouser; Supplier Part Number 2: 584-AD7228ABR; Packing: Tube; Resolution (Bits): 8; RoHS: N; Mounting Technology: Surface Mount; Code_JEDEC: MS-013-AD; ComponentLink1Description: Manufacturer URL; ComponentLink1URL: http://www.analog.com/en/index.html; ComponentLink2Description: Datasheet; ComponentLink2URL: http://www.analog.com/static/imported-files/data_sheets/AD7228.pdf; ComponentLink3Description: Package Specification; ComponentLink3URL: http://www.analog.com/static/imported-files/packages/33665150946139RW_24.pdf; ComponentLink4Description: Product URL; ComponentLink4URL: http://www.analog.com/en/digital-to-analog-converters/da-converters/ad7228/products/product.html
footprint RW-24_N (SOIC, 24-Leads, Body 15.4x7.5mm, Pitch 1.27mm, IPC Medium Density)
footprint RW-24_L (SOIC, 24-Leads, Body 15.4x7.5mm, Pitch 1.27mm, IPC High Density)
footprint RW-24_M (SOIC, 24-Leads, Body 15.4x7.5mm, Pitch 1.27mm, IPC Low Density)
pins: 1 VDD (power), 2 VOUT8 (out), 3 VOUT7 (out), 4 VOUT6 (out), 5 VOUT5 (out), 6 VOUT4 (out), 7 VOUT3 (out), 8 VOUT2 (out), 9 VOUT1 (out), 10 VSS (power), 11 VREF (in), 12 GND (power), 13 DB7 (MSB) (in), 14 DB6 (in), 15 DB5 (in), 16 DB4 (in), 17 DB3 (in), 18 DB2 (in), 19 DB1 (in), 20 DB0 (LSB) (in), 21 ~{WR} (in), 22 A2 (in), 23 A1 (in), 24 A0 (in)

## AD7228ABR-REEL
designator U?
Octal 8-Bit LC2MOS Digital-to-Analog Converter, -40 to +85 degC, RW-24, Reel; Generic Part Number: AD7228; Manufacturer: Analog Devices; PartNumber: AD7228ABR-REEL; # DAC Outputs: 8; Max V+: 16.5V; Op Pwr Diss: 310mW; Settling Time: 5µs; Single Supply: Yes; DatasheetVersion: Rev.A; PackageVersion: 060706-A; PackageReference: RW-24; PackageDescription: 24-Lead Standard Small Outline Package [SOIC_W]; Supplier 1: Mouser; Supplier Part Number 1: N/A; Packing: Reel; Resolution (Bits): 8; RoHS: N; Mounting Technology: Surface Mount; Code_JEDEC: MS-013-AD; ComponentLink1Description: Manufacturer URL; ComponentLink1URL: http://www.analog.com/en/index.html; ComponentLink2Description: Datasheet; ComponentLink2URL: http://www.analog.com/static/imported-files/data_sheets/AD7228.pdf; ComponentLink3Description: Package Specification; ComponentLink3URL: http://www.analog.com/static/imported-files/packages/33665150946139RW_24.pdf; ComponentLink4Description: Product URL; ComponentLink4URL: http://www.analog.com/en/digital-to-analog-converters/da-converters/ad7228/products/product.html
footprint RW-24_N (SOIC, 24-Leads, Body 15.4x7.5mm, Pitch 1.27mm, IPC Medium Density)
footprint RW-24_L (SOIC, 24-Leads, Body 15.4x7.5mm, Pitch 1.27mm, IPC High Density)
footprint RW-24_M (SOIC, 24-Leads, Body 15.4x7.5mm, Pitch 1.27mm, IPC Low Density)
pins: 1 VDD (power), 2 VOUT8 (out), 3 VOUT7 (out), 4 VOUT6 (out), 5 VOUT5 (out), 6 VOUT4 (out), 7 VOUT3 (out), 8 VOUT2 (out), 9 VOUT1 (out), 10 VSS (power), 11 VREF (in), 12 GND (power), 13 DB7 (MSB) (in), 14 DB6 (in), 15 DB5 (in), 16 DB4 (in), 17 DB3 (in), 18 DB2 (in), 19 DB1 (in), 20 DB0 (LSB) (in), 21 ~{WR} (in), 22 A2 (in), 23 A1 (in), 24 A0 (in)

## AD7228ABRZ
designator U?
Octal 8-Bit LC2MOS Digital-to-Analog Converter, -40 to +85 degC, RW-24, Pb-Free, Tube; Generic Part Number: AD7228; Manufacturer: Analog Devices; PartNumber: AD7228ABRZ; # DAC Outputs: 8; Max V+: 16.5V; Op Pwr Diss: 310mW; Settling Time: 5µs; Single Supply: Yes; DatasheetVersion: Rev.A; PackageVersion: 060706-A; PackageReference: RW-24; PackageDescription: 24-Lead Standard Small Outline Package [SOIC_W]; Supplier 1: Digi-Key; Supplier Part Number 1: AD7228ABRZ-ND; Supplier 2: Farnell; Supplier Part Number 2: 1438387; Supplier 3: Newark; Supplier Part Number 3: 59K4584; Supplier 4: Mouser; Supplier Part Number 4: 584-AD7228ABRZ; Packing: Tube; Resolution (Bits): 8; RoHS: Y; Mounting Technology: Surface Mount; Code_JEDEC: MS-013-AD; ComponentLink1Description: Manufacturer URL; ComponentLink1URL: http://www.analog.com/en/index.html; ComponentLink2Description: Datasheet; ComponentLink2URL: http://www.analog.com/static/imported-files/data_sheets/AD7228.pdf; ComponentLink3Description: Package Specification; ComponentLink3URL: http://www.analog.com/static/imported-files/packages/33665150946139RW_24.pdf; ComponentLink4Description: Product URL; ComponentLink4URL: http://www.analog.com/en/digital-to-analog-converters/da-converters/ad7228/products/product.html
footprint RW-24_N (SOIC, 24-Leads, Body 15.4x7.5mm, Pitch 1.27mm, IPC Medium Density)
footprint RW-24_L (SOIC, 24-Leads, Body 15.4x7.5mm, Pitch 1.27mm, IPC High Density)
footprint RW-24_M (SOIC, 24-Leads, Body 15.4x7.5mm, Pitch 1.27mm, IPC Low Density)
pins: 1 VDD (power), 2 VOUT8 (out), 3 VOUT7 (out), 4 VOUT6 (out), 5 VOUT5 (out), 6 VOUT4 (out), 7 VOUT3 (out), 8 VOUT2 (out), 9 VOUT1 (out), 10 VSS (power), 11 VREF (in), 12 GND (power), 13 DB7 (MSB) (in), 14 DB6 (in), 15 DB5 (in), 16 DB4 (in), 17 DB3 (in), 18 DB2 (in), 19 DB1 (in), 20 DB0 (LSB) (in), 21 ~{WR} (in), 22 A2 (in), 23 A1 (in), 24 A0 (in)

## AD7228ABRZ-REEL
designator U?
Octal 8-Bit LC2MOS Digital-to-Analog Converter, -40 to +85 degC, RW-24, Pb-Free, Reel; Generic Part Number: AD7228; Manufacturer: Analog Devices; PartNumber: AD7228ABRZ-REEL; # DAC Outputs: 8; Max V+: 16.5V; Op Pwr Diss: 310mW; Settling Time: 5µs; Single Supply: Yes; DatasheetVersion: Rev.A; PackageVersion: 060706-A; PackageReference: RW-24; PackageDescription: 24-Lead Standard Small Outline Package [SOIC_W]; Supplier 1: Digi-Key; Supplier Part Number 1: AD7228ABRZ-REEL-ND; Supplier 2: Mouser; Supplier Part Number 2: 584-AD7228ABRZ-R; Packing: Reel; Resolution (Bits): 8; RoHS: Y; Mounting Technology: Surface Mount; Code_JEDEC: MS-013-AD; ComponentLink1Description: Manufacturer URL; ComponentLink1URL: http://www.analog.com/en/index.html; ComponentLink2Description: Datasheet; ComponentLink2URL: http://www.analog.com/static/imported-files/data_sheets/AD7228.pdf; ComponentLink3Description: Package Specification; ComponentLink3URL: http://www.analog.com/static/imported-files/packages/33665150946139RW_24.pdf; ComponentLink4Description: Product URL; ComponentLink4URL: http://www.analog.com/en/digital-to-analog-converters/da-converters/ad7228/products/product.html
footprint RW-24_N (SOIC, 24-Leads, Body 15.4x7.5mm, Pitch 1.27mm, IPC Medium Density)
footprint RW-24_L (SOIC, 24-Leads, Body 15.4x7.5mm, Pitch 1.27mm, IPC High Density)
footprint RW-24_M (SOIC, 24-Leads, Body 15.4x7.5mm, Pitch 1.27mm, IPC Low Density)
pins: 1 VDD (power), 2 VOUT8 (out), 3 VOUT7 (out), 4 VOUT6 (out), 5 VOUT5 (out), 6 VOUT4 (out), 7 VOUT3 (out), 8 VOUT2 (out), 9 VOUT1 (out), 10 VSS (power), 11 VREF (in), 12 GND (power), 13 DB7 (MSB) (in), 14 DB6 (in), 15 DB5 (in), 16 DB4 (in), 17 DB3 (in), 18 DB2 (in), 19 DB1 (in), 20 DB0 (LSB) (in), 21 ~{WR} (in), 22 A2 (in), 23 A1 (in), 24 A0 (in)

## AD7228ACN
designator U?
Octal 8-Bit LC2MOS Digital-to-Analog Converter, -40 to +85 degC, N-24-1, Tube; Generic Part Number: AD7228; Manufacturer: Analog Devices; PartNumber: AD7228ACN; # DAC Outputs: 8; Max V+: 16.5V; Op Pwr Diss: 310mW; Settling Time: 5µs; Single Supply: Yes; DatasheetVersion: Rev.A; PackageVersion: 071006-A; PackageReference: N-24-1; PackageDescription: 24-Lead Plastic Dual In-Line Package [PDIP] Narrow Body; Supplier 1: Digi-Key; Supplier Part Number 1: AD7228ACN-ND; Supplier 2: Mouser; Supplier Part Number 2: 584-AD7228ACN; Packing: Tube; Resolution (Bits): 8; RoHS: N; Mounting Technology: Through Hole; Code_JEDEC: MS-001; ComponentLink1Description: Manufacturer URL; ComponentLink1URL: http://www.analog.com/en/index.html; ComponentLink2Description: Datasheet; ComponentLink2URL: http://www.analog.com/static/imported-files/data_sheets/AD7228.pdf; ComponentLink3Description: Package Specification; ComponentLink3URL: http://www.analog.com/static/imported-files/packages/50726455539629N_24_1.pdf; ComponentLink4Description: Product URL; ComponentLink4URL: http://www.analog.com/en/digital-to-analog-converters/da-converters/ad7228/products/product.html
footprint N-24-1 (DIP, 24-Leads, Row Spacing 7.62mm, Pitch 2.54mm, Body 31.9x6.6mm)
pins: 1 VDD (power), 2 VOUT8 (out), 3 VOUT7 (out), 4 VOUT6 (out), 5 VOUT5 (out), 6 VOUT4 (out), 7 VOUT3 (out), 8 VOUT2 (out), 9 VOUT1 (out), 10 VSS (power), 11 VREF (in), 12 GND (power), 13 DB7 (MSB) (in), 14 DB6 (in), 15 DB5 (in), 16 DB4 (in), 17 DB3 (in), 18 DB2 (in), 19 DB1 (in), 20 DB0 (LSB) (in), 21 ~{WR} (in), 22 A2 (in), 23 A1 (in), 24 A0 (in)

## AD7228ACNZ
designator U?
Octal 8-Bit LC2MOS Digital-to-Analog Converter, -40 to +85 degC, N-24-1, Pb-Free, Tube; Generic Part Number: AD7228; Manufacturer: Analog Devices; PartNumber: AD7228ACNZ; # DAC Outputs: 8; Max V+: 16.5V; Op Pwr Diss: 310mW; Settling Time: 5µs; Single Supply: Yes; DatasheetVersion: Rev.A; PackageVersion: 071006-A; PackageReference: N-24-1; PackageDescription: 24-Lead Plastic Dual In-Line Package [PDIP] Narrow Body; Supplier 1: Digi-Key; Supplier Part Number 1: AD7228ACNZ-ND; Supplier 2: Newark; Supplier Part Number 2: 59K4586; Supplier 3: Mouser; Supplier Part Number 3: 584-AD7228ACNZ; Packing: Tube; Resolution (Bits): 8; RoHS: Y; Mounting Technology: Through Hole; Code_JEDEC: MS-001; ComponentLink1Description: Manufacturer URL; ComponentLink1URL: http://www.analog.com/en/index.html; ComponentLink2Description: Datasheet; ComponentLink2URL: http://www.analog.com/static/imported-files/data_sheets/AD7228.pdf; ComponentLink3Description: Package Specification; ComponentLink3URL: http://www.analog.com/static/imported-files/packages/50726455539629N_24_1.pdf; ComponentLink4Description: Product URL; ComponentLink4URL: http://www.analog.com/en/digital-to-analog-converters/da-converters/ad7228/products/product.html
footprint N-24-1 (DIP, 24-Leads, Row Spacing 7.62mm, Pitch 2.54mm, Body 31.9x6.6mm)
pins: 1 VDD (power), 2 VOUT8 (out), 3 VOUT7 (out), 4 VOUT6 (out), 5 VOUT5 (out), 6 VOUT4 (out), 7 VOUT3 (out), 8 VOUT2 (out), 9 VOUT1 (out), 10 VSS (power), 11 VREF (in), 12 GND (power), 13 DB7 (MSB) (in), 14 DB6 (in), 15 DB5 (in), 16 DB4 (in), 17 DB3 (in), 18 DB2 (in), 19 DB1 (in), 20 DB0 (LSB) (in), 21 ~{WR} (in), 22 A2 (in), 23 A1 (in), 24 A0 (in)

## AD7228ACP
designator U?
Octal 8-Bit LC2MOS Digital-to-Analog Converter, -40 to +85 degC, P-28, Tube; Generic Part Number: AD7228; Manufacturer: Analog Devices; PartNumber: AD7228ACP; # DAC Outputs: 8; Max V+: 16.5V; Op Pwr Diss: 310mW; Settling Time: 5µs; Single Supply: Yes; DatasheetVersion: Rev.A; PackageVersion: 042508-A; PackageReference: P-28; PackageDescription: 28-Lead Plastic Leaded Chip Carrier [PLCC]; Supplier 1: Digi-Key; Supplier Part Number 1: AD7228ACP-ND; Supplier 2: Newark; Supplier Part Number 2: 05F7294; Supplier 3: Mouser; Supplier Part Number 3: 584-AD7228ACP; Packing: Tube; Resolution (Bits): 8; RoHS: N; Mounting Technology: Surface Mount; Code_JEDEC: MO-047-AB; ComponentLink1Description: Manufacturer URL; ComponentLink1URL: http://www.analog.com/en/index.html; ComponentLink2Description: Datasheet; ComponentLink2URL: http://www.analog.com/static/imported-files/data_sheets/AD7228.pdf; ComponentLink3Description: Package Specification; ComponentLink3URL: http://www.analog.com/static/imported-files/packages/PKG_PDF/PLCC(P)/P_28.pdf; ComponentLink4Description: Product URL; ComponentLink4URL: http://www.analog.com/en/digital-to-analog-converters/da-converters/ad7228/products/product.html
footprint P-28_N (Leaded Chip Carrier, 28-Leads, Body 11.5x11.5mm, Pitch 1.27mm, IPC Medium Density)
footprint P-28_L (Leaded Chip Carrier, 28-Leads, Body 11.5x11.5mm, Pitch 1.27mm, IPC High Density)
footprint P-28_M (Leaded Chip Carrier, 28-Leads, Body 11.5x11.5mm, Pitch 1.27mm, IPC Low Density)
pins: 1 NC, 2 VDD (power), 3 VOUT8 (out), 4 VOUT7 (out), 5 VOUT6 (out), 6 VOUT5 (out), 7 VOUT4 (out), 8 NC, 9 VOUT3 (out), 10 VOUT2 (out), 11 VOUT1 (out), 12 VSS (power), 13 VREF (in), 14 GND (power), 15 NC, 16 DB7 (in), 17 DB6 (in), 18 DB5 (in), 19 DB4 (in), 20 DB3 (in), 21 DB2 (in), 22 NC, 23 DB1 (in), 24 DB0 (in), 25 ~{WR} (in), 26 A2 (in), 27 A1 (in), 28 A0 (in)

## AD7228ACP-REEL
designator U?
Octal 8-Bit LC2MOS Digital-to-Analog Converter, -40 to +85 degC, P-28, Reel; Generic Part Number: AD7228; Manufacturer: Analog Devices; PartNumber: AD7228ACP-REEL; # DAC Outputs: 8; Max V+: 16.5V; Op Pwr Diss: 310mW; Settling Time: 5µs; Single Supply: Yes; DatasheetVersion: Rev.A; PackageVersion: 042508-A; PackageReference: P-28; PackageDescription: 28-Lead Plastic Leaded Chip Carrier [PLCC]; Supplier 1: Mouser; Supplier Part Number 1: N/A; Packing: Reel; Resolution (Bits): 8; RoHS: N; Mounting Technology: Surface Mount; Code_JEDEC: MO-047-AB; ComponentLink1Description: Manufacturer URL; ComponentLink1URL: http://www.analog.com/en/index.html; ComponentLink2Description: Datasheet; ComponentLink2URL: http://www.analog.com/static/imported-files/data_sheets/AD7228.pdf; ComponentLink3Description: Package Specification; ComponentLink3URL: http://www.analog.com/static/imported-files/packages/PKG_PDF/PLCC(P)/P_28.pdf; ComponentLink4Description: Product URL; ComponentLink4URL: http://www.analog.com/en/digital-to-analog-converters/da-converters/ad7228/products/product.html
footprint P-28_N (Leaded Chip Carrier, 28-Leads, Body 11.5x11.5mm, Pitch 1.27mm, IPC Medium Density)
footprint P-28_L (Leaded Chip Carrier, 28-Leads, Body 11.5x11.5mm, Pitch 1.27mm, IPC High Density)
footprint P-28_M (Leaded Chip Carrier, 28-Leads, Body 11.5x11.5mm, Pitch 1.27mm, IPC Low Density)
pins: 1 NC, 2 VDD (power), 3 VOUT8 (out), 4 VOUT7 (out), 5 VOUT6 (out), 6 VOUT5 (out), 7 VOUT4 (out), 8 NC, 9 VOUT3 (out), 10 VOUT2 (out), 11 VOUT1 (out), 12 VSS (power), 13 VREF (in), 14 GND (power), 15 NC, 16 DB7 (in), 17 DB6 (in), 18 DB5 (in), 19 DB4 (in), 20 DB3 (in), 21 DB2 (in), 22 NC, 23 DB1 (in), 24 DB0 (in), 25 ~{WR} (in), 26 A2 (in), 27 A1 (in), 28 A0 (in)

## AD7228ACPZ
designator U?
Octal 8-Bit LC2MOS Digital-to-Analog Converter, -40 to +85 degC, P-28, Pb-Free, Tube; Generic Part Number: AD7228; Manufacturer: Analog Devices; PartNumber: AD7228ACPZ; # DAC Outputs: 8; Max V+: 16.5V; Op Pwr Diss: 310mW; Settling Time: 5µs; Single Supply: Yes; DatasheetVersion: Rev.A; PackageVersion: 042508-A; PackageReference: P-28; PackageDescription: 28-Lead Plastic Leaded Chip Carrier [PLCC]; Supplier 1: Digi-Key; Supplier Part Number 1: AD7228ACPZ-ND; Supplier 2: Newark; Supplier Part Number 2: 12M8733; Supplier 3: Mouser; Supplier Part Number 3: 584-AD7228ACPZ; Packing: Tube; Resolution (Bits): 8; RoHS: Y; Mounting Technology: Surface Mount; Code_JEDEC: MO-047-AB; ComponentLink1Description: Manufacturer URL; ComponentLink1URL: http://www.analog.com/en/index.html; ComponentLink2Description: Datasheet; ComponentLink2URL: http://www.analog.com/static/imported-files/data_sheets/AD7228.pdf; ComponentLink3Description: Package Specification; ComponentLink3URL: http://www.analog.com/static/imported-files/packages/PKG_PDF/PLCC(P)/P_28.pdf; ComponentLink4Description: Product URL; ComponentLink4URL: http://www.analog.com/en/digital-to-analog-converters/da-converters/ad7228/products/product.html
footprint P-28_N (Leaded Chip Carrier, 28-Leads, Body 11.5x11.5mm, Pitch 1.27mm, IPC Medium Density)
footprint P-28_L (Leaded Chip Carrier, 28-Leads, Body 11.5x11.5mm, Pitch 1.27mm, IPC High Density)
footprint P-28_M (Leaded Chip Carrier, 28-Leads, Body 11.5x11.5mm, Pitch 1.27mm, IPC Low Density)
pins: 1 NC, 2 VDD (power), 3 VOUT8 (out), 4 VOUT7 (out), 5 VOUT6 (out), 6 VOUT5 (out), 7 VOUT4 (out), 8 NC, 9 VOUT3 (out), 10 VOUT2 (out), 11 VOUT1 (out), 12 VSS (power), 13 VREF (in), 14 GND (power), 15 NC, 16 DB7 (in), 17 DB6 (in), 18 DB5 (in), 19 DB4 (in), 20 DB3 (in), 21 DB2 (in), 22 NC, 23 DB1 (in), 24 DB0 (in), 25 ~{WR} (in), 26 A2 (in), 27 A1 (in), 28 A0 (in)

## AD7228ACPZ-REEL
designator U?
Octal 8-Bit LC2MOS Digital-to-Analog Converter, -40 to +85 degC, P-28, Pb-Free, Reel; Generic Part Number: AD7228; Manufacturer: Analog Devices; PartNumber: AD7228ACPZ-REEL; # DAC Outputs: 8; Max V+: 16.5V; Op Pwr Diss: 310mW; Settling Time: 5µs; Single Supply: Yes; DatasheetVersion: Rev.A; PackageVersion: 042508-A; PackageReference: P-28; PackageDescription: 28-Lead Plastic Leaded Chip Carrier [PLCC]; Supplier 1: Digi-Key; Supplier Part Number 1: AD7228ACPZ-REEL-ND; Supplier 2: Mouser; Supplier Part Number 2: 584-AD7228ACPZ-R; Packing: Reel; Resolution (Bits): 8; RoHS: Y; Mounting Technology: Surface Mount; Code_JEDEC: MO-047-AB; ComponentLink1Description: Manufacturer URL; ComponentLink1URL: http://www.analog.com/en/index.html; ComponentLink2Description: Datasheet; ComponentLink2URL: http://www.analog.com/static/imported-files/data_sheets/AD7228.pdf; ComponentLink3Description: Package Specification; ComponentLink3URL: http://www.analog.com/static/imported-files/packages/PKG_PDF/PLCC(P)/P_28.pdf; ComponentLink4Description: Product URL; ComponentLink4URL: http://www.analog.com/en/digital-to-analog-converters/da-converters/ad7228/products/product.html
footprint P-28_N (Leaded Chip Carrier, 28-Leads, Body 11.5x11.5mm, Pitch 1.27mm, IPC Medium Density)
footprint P-28_L (Leaded Chip Carrier, 28-Leads, Body 11.5x11.5mm, Pitch 1.27mm, IPC High Density)
footprint P-28_M (Leaded Chip Carrier, 28-Leads, Body 11.5x11.5mm, Pitch 1.27mm, IPC Low Density)
pins: 1 NC, 2 VDD (power), 3 VOUT8 (out), 4 VOUT7 (out), 5 VOUT6 (out), 6 VOUT5 (out), 7 VOUT4 (out), 8 NC, 9 VOUT3 (out), 10 VOUT2 (out), 11 VOUT1 (out), 12 VSS (power), 13 VREF (in), 14 GND (power), 15 NC, 16 DB7 (in), 17 DB6 (in), 18 DB5 (in), 19 DB4 (in), 20 DB3 (in), 21 DB2 (in), 22 NC, 23 DB1 (in), 24 DB0 (in), 25 ~{WR} (in), 26 A2 (in), 27 A1 (in), 28 A0 (in)

## AD7228ACQ
designator U?
Octal 8-Bit LC2MOS Digital-to-Analog Converter, -40 to +85 degC, Q-24, Tube; Generic Part Number: AD7228; Manufacturer: Analog Devices; PartNumber: AD7228ACQ; # DAC Outputs: 8; Max V+: 16.5V; Op Pwr Diss: 310mW; Settling Time: 5µs; Single Supply: Yes; DatasheetVersion: Rev.A; PackageVersion: 2000; PackageReference: Q-24; PackageDescription: 24-Lead Ceramic Dual In-Line Package [CERDIP]; Supplier 1: Digi-Key; Supplier Part Number 1: AD7228ACQ-ND; Supplier 2: Mouser; Supplier Part Number 2: 584-AD7228ACQ; Packing: Tube; Resolution (Bits): 8; RoHS: N; Mounting Technology: Through Hole; ComponentLink1Description: Manufacturer URL; ComponentLink1URL: http://www.analog.com/en/index.html; ComponentLink2Description: Datasheet; ComponentLink2URL: http://www.analog.com/static/imported-files/data_sheets/AD7228.pdf; ComponentLink3Description: Package Specification; ComponentLink3URL: http://www.analog.com/static/imported-files/data_sheets/AD7837_7847.pdf; ComponentLink4Description: Product URL; ComponentLink4URL: http://www.analog.com/en/digital-to-analog-converters/da-converters/ad7228/products/product.html
footprint Q-24 (DIP, 24-Leads, Row Spacing 7.62mm, Pitch 2.54mm, Body 31.9x6.7mm)
pins: 1 VDD (power), 2 VOUT8 (out), 3 VOUT7 (out), 4 VOUT6 (out), 5 VOUT5 (out), 6 VOUT4 (out), 7 VOUT3 (out), 8 VOUT2 (out), 9 VOUT1 (out), 10 VSS (power), 11 VREF (in), 12 GND (power), 13 DB7 (MSB) (in), 14 DB6 (in), 15 DB5 (in), 16 DB4 (in), 17 DB3 (in), 18 DB2 (in), 19 DB1 (in), 20 DB0 (LSB) (in), 21 ~{WR} (in), 22 A2 (in), 23 A1 (in), 24 A0 (in)